# Altium schematic symbol library SCH - RF - SOC - TI CC2640R2 VQFN32 RSM.SchLib: 1 symbol
Pins are listed as number, name and electrical type; pins without a type are passive.

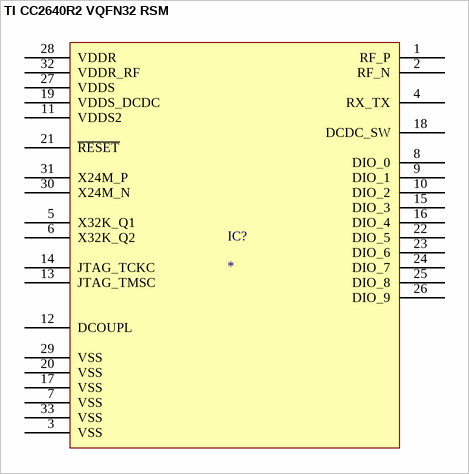
[diagram p0: symbol TI CC2640R2 VQFN32 RSM]

## TI CC2640R2 VQFN32 RSM
designator IC?
pins: 1 RF_P, 2 RF_N, 3 VSS, 4 RX_TX, 5 X32K_Q1, 6 X32K_Q2, 7 VSS, 8 DIO_0, 9 DIO_1, 10 DIO_2, 11 VDDS2, 12 DCOUPL, 13 JTAG_TMSC, 14 JTAG_TCKC, 15 DIO_3, 16 DIO_4, 17 VSS, 18 DCDC_SW, 19 VDDS_DCDC, 20 VSS, 21 ~{RESET}, 22 DIO_5, 23 DIO_6, 24 DIO_7, 25 DIO_8, 26 DIO_9, 27 VDDS, 28 VDDR, 29 VSS, 30 X24M_N, 31 X24M_P, 32 VDDR_RF, 33 VSS